# EAGLE library part CPCI_AB19- (library con-cpci)
Compact PCI AB 19 Source: www.erni.com
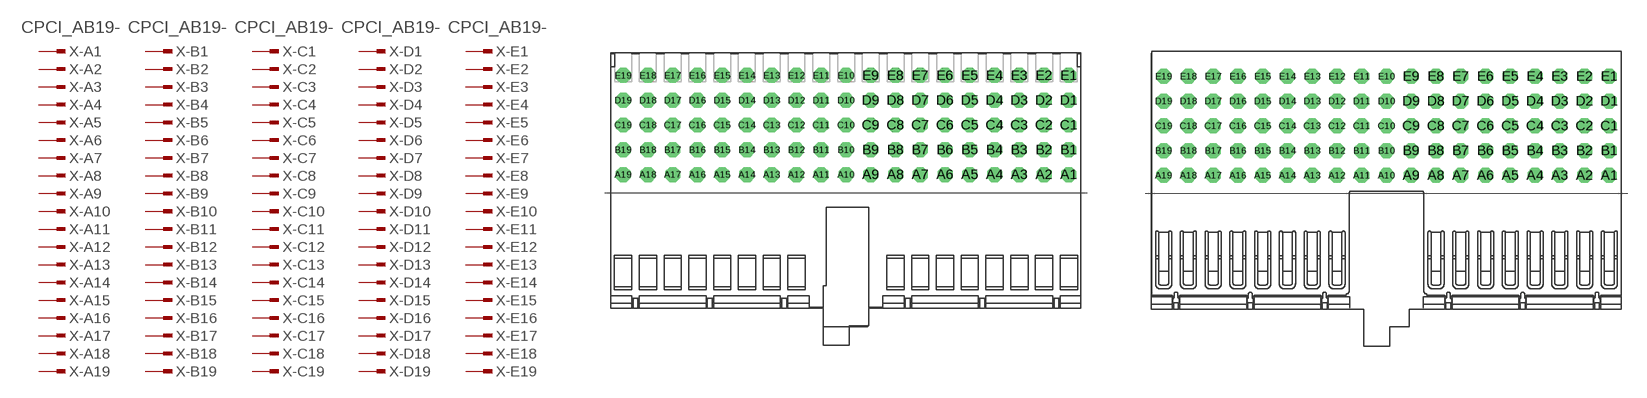
[diagram p5: symbol with the pads of 114529; footprints 114529, 134075]

Designator prefix X; gates -A1=PINV -B1=PINV -C1=PINV -D1=PINV -E1=PINV -A2=PIN -A3=PIN -A4=PIN -A5=PIN -A6=PIN -A7=PIN -A8=PIN -A9=PIN -A10=PIN -A11=PIN -A12=PIN -A13=PIN -A14=PIN -A15=PIN -A16=PIN -A17=PIN -A18=PIN -A19=PIN -B2=PIN -B3=PIN -B4=PIN -B5=PIN -B6=PIN -B7=PIN -B8=PIN -B9=PIN -B10=PIN -B11=PIN -B12=PIN -B13=PIN -B14=PIN -B15=PIN -B16=PIN -B17=PIN -B18=PIN -B19=PIN -C2=PIN -C3=PIN -C4=PIN -C5=PIN -C6=PIN -C7=PIN -C8=PIN -C9=PIN -C10=PIN -C11=PIN -C12=PIN -C13=PIN -C14=PIN -C15=PIN -C16=PIN -C17=PIN -C18=PIN -C19=PIN -D2=PIN -D3=PIN -D4=PIN -D5=PIN -D6=PIN -D7=PIN -D8=PIN -D9=PIN -D10=PIN -D11=PIN -D12=PIN -D13=PIN -D14=PIN -D15=PIN -D16=PIN -D17=PIN -D18=PIN -D19=PIN -E2=PIN -E3=PIN -E4=PIN -E5=PIN -E6=PIN -E7=PIN -E8=PIN -E9=PIN -E10=PIN -E11=PIN -E12=PIN -E13=PIN -E14=PIN -E15=PIN -E16=PIN -E17=PIN -E18=PIN -E19=PIN

## CPCI_AB19-114529 (OC_FARNELL: unknown; OC_NEWARK: unknown)  [114529]
A1  -A1:1  in
A2  -A2:1  in
A3  -A3:1  in
A4  -A4:1  in
A5  -A5:1  in
A6  -A6:1  in
A7  -A7:1  in
A8  -A8:1  in
A9  -A9:1  in
A10  -A10:1  in
A11  -A11:1  in
A12  -A12:1  in
A13  -A13:1  in
A14  -A14:1  in
A15  -A15:1  in
A16  -A16:1  in
A17  -A17:1  in
A18  -A18:1  in
A19  -A19:1  in
B1  -B1:1  in
B2  -B2:1  in
B3  -B3:1  in
B4  -B4:1  in
B5  -B5:1  in
B6  -B6:1  in
B7  -B7:1  in
B8  -B8:1  in
B9  -B9:1  in
B10  -B10:1  in
B11  -B11:1  in
B12  -B12:1  in
B13  -B13:1  in
B14  -B14:1  in
B15  -B15:1  in
B16  -B16:1  in
B17  -B17:1  in
B18  -B18:1  in
B19  -B19:1  in
C1  -C1:1  in
C2  -C2:1  in
C3  -C3:1  in
C4  -C4:1  in
C5  -C5:1  in
C6  -C6:1  in
C7  -C7:1  in
C8  -C8:1  in
C9  -C9:1  in
C10  -C10:1  in
C11  -C11:1  in
C12  -C12:1  in
C13  -C13:1  in
C14  -C14:1  in
C15  -C15:1  in
C16  -C16:1  in
C17  -C17:1  in
C18  -C18:1  in
C19  -C19:1  in
D1  -D1:1  in
D2  -D2:1  in
D3  -D3:1  in
D4  -D4:1  in
D5  -D5:1  in
D6  -D6:1  in
D7  -D7:1  in
D8  -D8:1  in
D9  -D9:1  in
D10  -D10:1  in
D11  -D11:1  in
D12  -D12:1  in
D13  -D13:1  in
D14  -D14:1  in
D15  -D15:1  in
D16  -D16:1  in
D17  -D17:1  in
D18  -D18:1  in
D19  -D19:1  in
E1  -E1:1  in
E2  -E2:1  in
E3  -E3:1  in
E4  -E4:1  in
E5  -E5:1  in
E6  -E6:1  in
E7  -E7:1  in
E8  -E8:1  in
E9  -E9:1  in
E10  -E10:1  in
E11  -E11:1  in
E12  -E12:1  in
E13  -E13:1  in
E14  -E14:1  in
E15  -E15:1  in
E16  -E16:1  in
E17  -E17:1  in
E18  -E18:1  in
E19  -E19:1  in

## CPCI_AB19-134075 (OC_FARNELL: unknown; OC_NEWARK: unknown)  [134075]
Pads as for 114529

## Footprint 114529 (pad centres in mm)
ERmet Federleiste AB 19 / ERmet Female Type AB 19 Source: http://www.erni.com/DB/PDF-Drawing/ERmet/114529.pdf
drill 0.7 pad 1.016 octagon: A1 18,0; A2 16,0; A3 14,0; A4 12,0; A5 10,0; A6 8,0; A7 6,0; A8 4,0; A9 2,0; A10 0,0; A11 -2,0; A12 -4,0; A13 -6,0; A14 -8,0; A15 -10,0; A16 -12,0; A17 -14,0; A18 -16,0; A19 -18,0; B1 18,2; B2 16,2; B3 14,2; B4 12,2; B5 10,2; B6 8,2; B7 6,2; B8 4,2; B9 2,2; B10 0,2; B11 -2,2; B12 -4,2; B13 -6,2; B14 -8,2; B15 -10,2; B16 -12,2; B17 -14,2; B18 -16,2; B19 -18,2; C1 18,4; C2 16,4; C3 14,4; C4 12,4; C5 10,4; C6 8,4; C7 6,4; C8 4,4; C9 2,4; C10 0,4; C11 -2,4; C12 -4,4; C13 -6,4; C14 -8,4; C15 -10,4; C16 -12,4; C17 -14,4; C18 -16,4; C19 -18,4; D1 18,6; D2 16,6; D3 14,6; D4 12,6; D5 10,6; D6 8,6; D7 6,6; D8 4,6; D9 2,6; D10 0,6; D11 -2,6; D12 -4,6; D13 -6,6; D14 -8,6; D15 -10,6; D16 -12,6; D17 -14,6; D18 -16,6; D19 -18,6; E1 18,8; E2 16,8; E3 14,8; E4 12,8; E5 10,8; E6 8,8; E7 6,8; E8 4,8; E9 2,8; E10 0,8; E11 -2,8; E12 -4,8; E13 -6,8; E14 -8,8; E15 -10,8; E16 -12,8; E17 -14,8; E18 -16,8; E19 -18,8

## Footprint 134075 (pad centres in mm)
ERmet Federleiste AB 19 / ERmet Female Type AB 19 Source: http://www.erni.com/DB/PDF-Drawing/ERmet/134075.pdf
drill 0.7 pad 1.016 octagon: A1 18,0; A2 16,0; A3 14,0; A4 12,0; A5 10,0; A6 8,0; A7 6,0; A8 4,0; A9 2,0; A10 0,0; A11 -2,0; A12 -4,0; A13 -6,0; A14 -8,0; A15 -10,0; A16 -12,0; A17 -14,0; A18 -16,0; A19 -18,0; B1 18,2; B2 16,2; B3 14,2; B4 12,2; B5 10,2; B6 8,2; B7 6,2; B8 4,2; B9 2,2; B10 0,2; B11 -2,2; B12 -4,2; B13 -6,2; B14 -8,2; B15 -10,2; B16 -12,2; B17 -14,2; B18 -16,2; B19 -18,2; C1 18,4; C2 16,4; C3 14,4; C4 12,4; C5 10,4; C6 8,4; C7 6,4; C8 4,4; C9 2,4; C10 0,4; C11 -2,4; C12 -4,4; C13 -6,4; C14 -8,4; C15 -10,4; C16 -12,4; C17 -14,4; C18 -16,4; C19 -18,4; D1 18,6; D2 16,6; D3 14,6; D4 12,6; D5 10,6; D6 8,6; D7 6,6; D8 4,6; D9 2,6; D10 0,6; D11 -2,6; D12 -4,6; D13 -6,6; D14 -8,6; D15 -10,6; D16 -12,6; D17 -14,6; D18 -16,6; D19 -18,6; E1 18,8; E2 16,8; E3 14,8; E4 12,8; E5 10,8; E6 8,8; E7 6,8; E8 4,8; E9 2,8; E10 0,8; E11 -2,8; E12 -4,8; E13 -6,8; E14 -8,8; E15 -10,8; E16 -12,8; E17 -14,8; E18 -16,8; E19 -18,8